# EAGLE library part DS3231M+TRL (library APU_Motherboard_Library)
Check availability <https://pricing.snapeda.com/parts/DS3231M%2BTRL/Analog%20Devices/view-part?ref=eda>
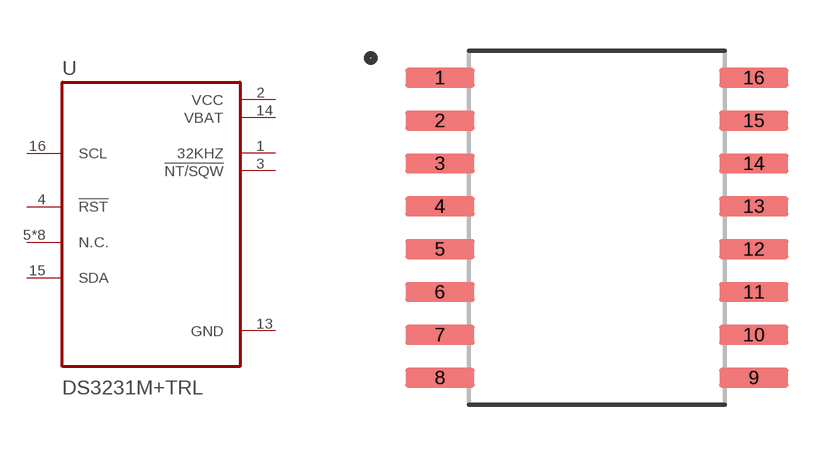
[diagram p6: symbol with the pads of SOIC127P1032X265-16N; footprint SOIC127P1032X265-16N]

Designator prefix U

## DS3231M+TRL (AVAILABILITY: In Stock; DESCRIPTION: ±5ppm, I2C Real-Time Clock; MF: Analog Devices; MP: DS3231M+TRL; PACKAGE: SOIC-16 Maxim; PRICE: None; PURCHASE-URL: https://pricing.snapeda.com/search/part/DS3231M+TRL/?ref=eda)  [SOIC127P1032X265-16N]
1  32KHZ  out
2  VCC
3  !NT/SQW  out
4  !RST
5  N.C.
6  N.C.
7  N.C.
8  N.C.
9  N.C.
10  N.C.
11  N.C.
12  N.C.
13  GND
14  VBAT
15  SDA
16  SCL  in

## Footprint SOIC127P1032X265-16N (pad centres in mm)
smd 2.05 x 0.59: 1 -4.655,4.445; 2 -4.655,3.175; 3 -4.655,1.905; 4 -4.655,0.635; 5 -4.655,-0.635; 6 -4.655,-1.905; 7 -4.655,-3.175; 8 -4.655,-4.445; 9 4.655,-4.445; 10 4.655,-3.175; 11 4.655,-1.905; 12 4.655,-0.635; 13 4.655,0.635; 14 4.655,1.905; 15 4.655,3.175; 16 4.655,4.445